# Altium schematic symbol library 3-Inductor_lib.SchLib: 5 symbols
Pins are listed as number, name and electrical type; pins without a type are passive.

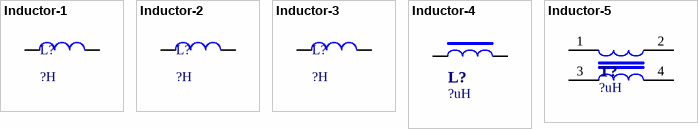
[diagram p0: symbols Inductor-1 to Inductor-5]

## Inductor-1
designator L?, comment ?H
贴片式层叠电感; 厂家: 国巨电子; 版本: 2015-V1.0; 价格: 0.01; Value: ?H
footprint L0603
footprint L0805
footprint L1206
footprint L453226
pins: 1, 2

## Inductor-2
designator L?, comment ?H
直插立式固定电感; 厂家: 国巨电子; 版本: 2015-V1.0; 价格: 0.01; Value: ?H
footprint L-RB-8 (Inductor)
footprint L-RB-8F (直?)
pins: 1, 2

## Inductor-3
designator L?, comment ?H
贴片屏蔽式功率电感; 厂家: 国巨电子; 版本: 2015-V1.0; 价格: 0.01; Value: ?H
footprint L-1812
footprint L-CD104
footprint L-CD127
footprint L-SMD-7 (贴片电感7*7)
footprint L-SMD-10 (贴片电感10*10)
footprint L-SMD-12 (贴片电感12*12)
pins: 1, 2

## Inductor-4
designator L?, comment ?uH
含铁芯电感
pins: 1, 2

## Inductor-5
designator T?, comment ?uH
共模电感
footprint B82793C0
pins: 1, 2, 3, 4